# EAGLE library part BERRYIMU (library telemetry_module)
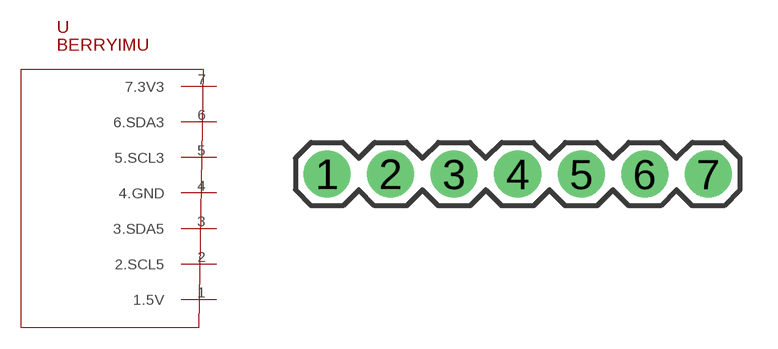
[diagram p3: symbol with the pads of 1X07; footprint 1X07]

Designator prefix -

## BERRYIMU  [1X07]
1  1.5V
2  2.SCL5
3  3.SDA5
4  4.GND
5  5.SCL3
6  6.SDA3
7  7.3V3

## Footprint 1X07 (pad centres in mm)
Plated Through Hole -7 Pin Specifications: Pin count:7 Pin pitch:0.1" Example device(s): CONN_07
drill 1.016 pad 1.88: 1 0,0; 2 2.54,0; 3 5.08,0; 4 7.62,0; 5 10.16,0; 6 12.7,0; 7 15.24,0